# Altium integrated library Analog Devices Data Converters Digital-to-Analog Converters.IntLib: 2231 symbols (part 28 of 181)
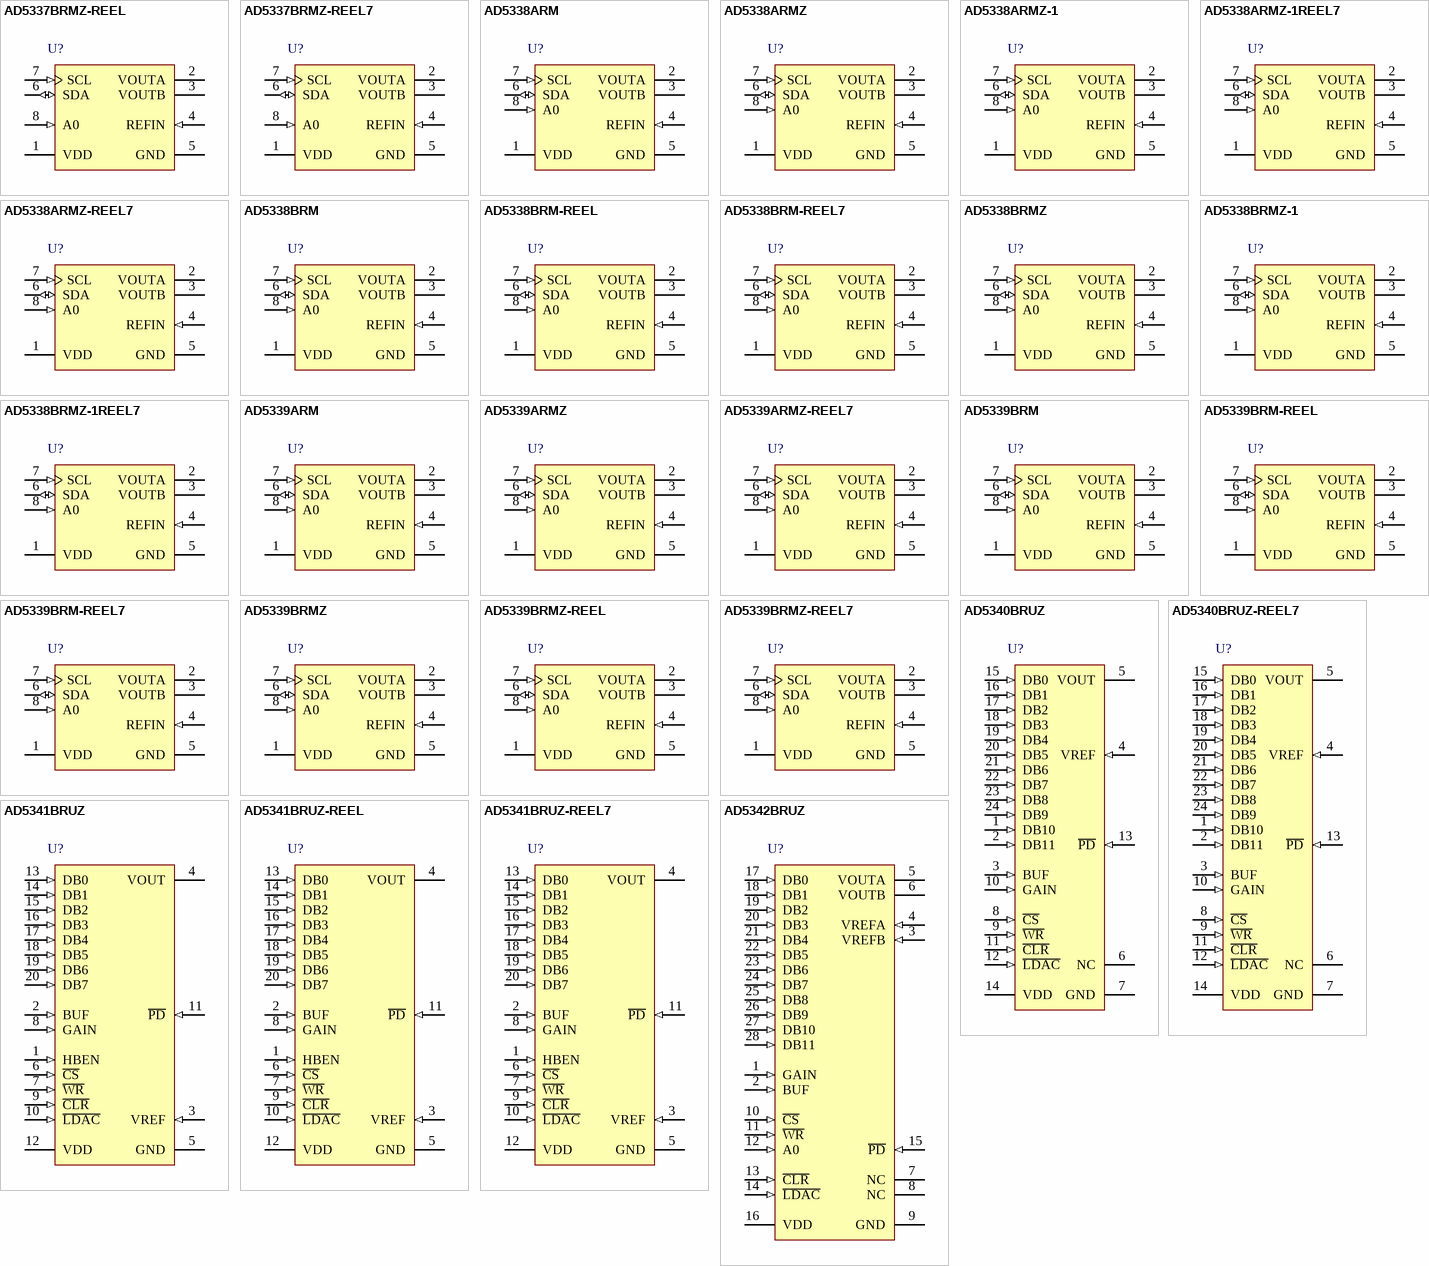
[diagram p141: symbols AD5337BRMZ-REEL to AD5342BRUZ]

## AD5338BRMZ-1
designator U?
Dual 10-Bit Voltage Output Digital-to-Analog Converter with 2-WireInterface, 2.5 to 5.5 V, 250 uA, -40 to +105 degC, RM-8, Pb-Free, Tube; Generic Part Number: AD5338; Manufacturer: Analog Devices; PartNumber: AD5338BRMZ-1; # DAC Outputs: 2; Max V+: 5.5V; Op Pwr Diss: 1.9mW; Resolution (Bits): 10; Settling Time: 7µs; Single Supply: Yes; DatasheetVersion: Rev.C; PackageVersion: Aug-2005; PackageReference: RM-8; PackageDescription: 8-Lead Mini Small Outline Package [MSOP]; Supplier 1: Digi-Key; Supplier Part Number 1: AD5338BRMZ-1-ND; Supplier 2: Mouser; Supplier Part Number 2: 584-AD5338BRMZ-1; Packing: Tube; RoHS: Y; Mounting Technology: Surface Mount; Code_JEDEC: MO-187-AA; ComponentLink1Description: Manufacturer URL; ComponentLink1URL: http://www.analog.com/en/index.html; ComponentLink2Description: Datasheet; ComponentLink2URL: http://www.analog.com/static/imported-files/data_sheets/AD5337_5338_5339.pdf; ComponentLink3Description: Package Specification; ComponentLink3URL: http://www.analog.com/static/imported-files/packages/PKG_PDF/MSOP%28RM%29/RM_8.pdf; ComponentLink4Description: Product URL; ComponentLink4URL: http://www.analog.com/en/digital-to-analog-converters/da-converters/ad5338/products/product.html
footprint RM-8_N (TSOP, 8-Leads, Body 3x3mm, Pitch 0.65mm, IPC Medium Density)
footprint RM-8_L (TSOP, 8-Leads, Body 3x3mm, Pitch 0.65mm, IPC High Density)
footprint RM-8_M (TSOP, 8-Leads, Body 3x3mm, Pitch 0.65mm, IPC Low Density)
pins: 1 VDD (power) "Power Supply Input. These parts can be operated from 2.5 V to 5.5 V, and the supply should be decoupled to GND.", 2 VOUTA (hiz) "Buffered Analog Output Voltage from DAC A. The output amplifier has rail-to-rail operation.", 3 VOUTB (hiz) "Buffered Analog Output Voltage from DAC B. The output amplifier has rail-to-rail operation.", 4 REFIN (in) "Reference Input Pin for the Two DACs. It has an input range from 0.25 V to VDD.", 5 GND (power) "Ground Reference Point for All Circuitry on the Parts.", 6 SDA (io) "Serial Data Line. This is used in conjunction with the SCL line to clock data into or out of the 16-bit input shift register. SDA is a bidirectional open-drain data line that should be pulled to the supply with an external (See Datasheet)", 7 SCL (in) "Serial Clock Line. This is used in conjunction with the SDA line to clock data into or out of the 16-bit input shift register. Clock rates of up to 400 kbps can be accommodated in the 2-wire interface.", 8 A0 (in) "Address Input. Sets the least significant bit of the 7-bit slave address."

## AD5338BRMZ-1REEL7
designator U?
Dual 10-Bit Voltage Output Digital-to-Analog Converter with 2-WireInterface, 2.5 to 5.5 V, 250 uA, -40 to +105 degC, RM-8, Pb-Free, Reel; Generic Part Number: AD5338; Manufacturer: Analog Devices; PartNumber: AD5338BRMZ-1REEL7; # DAC Outputs: 2; Max V+: 5.5V; Op Pwr Diss: 1.9mW; Resolution (Bits): 10; Settling Time: 7µs; Single Supply: Yes; DatasheetVersion: Rev.C; PackageVersion: Aug-2005; PackageReference: RM-8; PackageDescription: 8-Lead Mini Small Outline Package [MSOP]; Supplier 1: Digi-Key; Supplier Part Number 1: AD5338BRMZ-1REEL7-ND; Supplier 2: Mouser; Supplier Part Number 2: 584-AD5338BRMZ-1R7; Packing: Reel; RoHS: Y; Mounting Technology: Surface Mount; Code_JEDEC: MO-187-AA; ComponentLink1Description: Manufacturer URL; ComponentLink1URL: http://www.analog.com/en/index.html; ComponentLink2Description: Datasheet; ComponentLink2URL: http://www.analog.com/static/imported-files/data_sheets/AD5337_5338_5339.pdf; ComponentLink3Description: Package Specification; ComponentLink3URL: http://www.analog.com/static/imported-files/packages/PKG_PDF/MSOP%28RM%29/RM_8.pdf; ComponentLink4Description: Product URL; ComponentLink4URL: http://www.analog.com/en/digital-to-analog-converters/da-converters/ad5338/products/product.html
footprint RM-8_N (TSOP, 8-Leads, Body 3x3mm, Pitch 0.65mm, IPC Medium Density)
footprint RM-8_L (TSOP, 8-Leads, Body 3x3mm, Pitch 0.65mm, IPC High Density)
footprint RM-8_M (TSOP, 8-Leads, Body 3x3mm, Pitch 0.65mm, IPC Low Density)
pins: 1 VDD (power) "Power Supply Input. These parts can be operated from 2.5 V to 5.5 V, and the supply should be decoupled to GND.", 2 VOUTA (hiz) "Buffered Analog Output Voltage from DAC A. The output amplifier has rail-to-rail operation.", 3 VOUTB (hiz) "Buffered Analog Output Voltage from DAC B. The output amplifier has rail-to-rail operation.", 4 REFIN (in) "Reference Input Pin for the Two DACs. It has an input range from 0.25 V to VDD.", 5 GND (power) "Ground Reference Point for All Circuitry on the Parts.", 6 SDA (io) "Serial Data Line. This is used in conjunction with the SCL line to clock data into or out of the 16-bit input shift register. SDA is a bidirectional open-drain data line that should be pulled to the supply with an external (See Datasheet)", 7 SCL (in) "Serial Clock Line. This is used in conjunction with the SDA line to clock data into or out of the 16-bit input shift register. Clock rates of up to 400 kbps can be accommodated in the 2-wire interface.", 8 A0 (in) "Address Input. Sets the least significant bit of the 7-bit slave address."

## AD5339ARM
designator U?
Dual 12-Bit Voltage Output Digital-to-Analog Converter with 2-WireInterface, 2.5 to 5.5 V, 250 uA, -40 to +105 degC, RM-8, Tube; Generic Part Number: AD5339; Manufacturer: Analog Devices; PartNumber: AD5339ARM; # DAC Outputs: 2; Max V+: 5.5V; Op Pwr Diss: 1.9mW; Resolution (Bits): 12; Settling Time: 8µs; Single Supply: Yes; DatasheetVersion: Rev.C; PackageVersion: Aug-2005; PackageReference: RM-8; PackageDescription: 8-Lead Mini Small Outline Package [MSOP]; Supplier 1: Digi-Key; Supplier Part Number 1: AD5339ARM-ND; Supplier 2: Farnell; Supplier Part Number 2: 8396833; Supplier 3: Newark; Supplier Part Number 3: 31M4087; Supplier 4: Newark; Supplier Part Number 4: 87H9918; Supplier 5: Mouser; Supplier Part Number 5: 584-AD5339ARM; Packing: Tube; RoHS: N; Mounting Technology: Surface Mount; Code_JEDEC: MO-187-AA; ComponentLink1Description: Manufacturer URL; ComponentLink1URL: http://www.analog.com/en/index.html; ComponentLink2Description: Datasheet; ComponentLink2URL: http://www.analog.com/static/imported-files/data_sheets/AD5337_5338_5339.pdf; ComponentLink3Description: Package Specification; ComponentLink3URL: http://www.analog.com/static/imported-files/packages/PKG_PDF/MSOP%28RM%29/RM_8.pdf; ComponentLink4Description: Product URL; ComponentLink4URL: http://www.analog.com/en/digital-to-analog-converters/da-converters/ad5339/products/product.html
footprint RM-8_N (TSOP, 8-Leads, Body 3x3mm, Pitch 0.65mm, IPC Medium Density)
footprint RM-8_L (TSOP, 8-Leads, Body 3x3mm, Pitch 0.65mm, IPC High Density)
footprint RM-8_M (TSOP, 8-Leads, Body 3x3mm, Pitch 0.65mm, IPC Low Density)
pins: 1 VDD (power) "Power Supply Input. These parts can be operated from 2.5 V to 5.5 V, and the supply should be decoupled to GND.", 2 VOUTA (hiz) "Buffered Analog Output Voltage from DAC A. The output amplifier has rail-to-rail operation.", 3 VOUTB (hiz) "Buffered Analog Output Voltage from DAC B. The output amplifier has rail-to-rail operation.", 4 REFIN (in) "Reference Input Pin for the Two DACs. It has an input range from 0.25 V to VDD.", 5 GND (power) "Ground Reference Point for All Circuitry on the Parts.", 6 SDA (io) "Serial Data Line. This is used in conjunction with the SCL line to clock data into or out of the 16-bit input shift register. SDA is a bidirectional open-drain data line that should be pulled to the supply with an external (See Datasheet)", 7 SCL (in) "Serial Clock Line. This is used in conjunction with the SDA line to clock data into or out of the 16-bit input shift register. Clock rates of up to 400 kbps can be accommodated in the 2-wire interface.", 8 A0 (in) "Address Input. Sets the least significant bit of the 7-bit slave address."

## AD5339ARMZ
designator U?
Dual 12-Bit Voltage Output Digital-to-Analog Converter with 2-WireInterface, 2.5 to 5.5 V, 250 uA, -40 to +105 degC, RM-8, Pb-Free, Tube; Generic Part Number: AD5339; Manufacturer: Analog Devices; PartNumber: AD5339ARMZ; # DAC Outputs: 2; Max V+: 5.5V; Op Pwr Diss: 1.9mW; Resolution (Bits): 12; Settling Time: 8µs; Single Supply: Yes; DatasheetVersion: Rev.C; PackageVersion: Aug-2005; PackageReference: RM-8; PackageDescription: 8-Lead Mini Small Outline Package [MSOP]; Supplier 1: Digi-Key; Supplier Part Number 1: AD5339ARMZ-ND; Supplier 2: Farnell; Supplier Part Number 2: 2312737; Supplier 3: Newark; Supplier Part Number 3: 23T4180; Supplier 4: Mouser; Supplier Part Number 4: 584-AD5339ARMZ; Packing: Tube; RoHS: Y; Mounting Technology: Surface Mount; Code_JEDEC: MO-187-AA; ComponentLink1Description: Manufacturer URL; ComponentLink1URL: http://www.analog.com/en/index.html; ComponentLink2Description: Datasheet; ComponentLink2URL: http://www.analog.com/static/imported-files/data_sheets/AD5337_5338_5339.pdf; ComponentLink3Description: Package Specification; ComponentLink3URL: http://www.analog.com/static/imported-files/packages/PKG_PDF/MSOP%28RM%29/RM_8.pdf; ComponentLink4Description: Product URL; ComponentLink4URL: http://www.analog.com/en/digital-to-analog-converters/da-converters/ad5339/products/product.html
footprint RM-8_N (TSOP, 8-Leads, Body 3x3mm, Pitch 0.65mm, IPC Medium Density)
footprint RM-8_L (TSOP, 8-Leads, Body 3x3mm, Pitch 0.65mm, IPC High Density)
footprint RM-8_M (TSOP, 8-Leads, Body 3x3mm, Pitch 0.65mm, IPC Low Density)
pins: 1 VDD (power) "Power Supply Input. These parts can be operated from 2.5 V to 5.5 V, and the supply should be decoupled to GND.", 2 VOUTA (hiz) "Buffered Analog Output Voltage from DAC A. The output amplifier has rail-to-rail operation.", 3 VOUTB (hiz) "Buffered Analog Output Voltage from DAC B. The output amplifier has rail-to-rail operation.", 4 REFIN (in) "Reference Input Pin for the Two DACs. It has an input range from 0.25 V to VDD.", 5 GND (power) "Ground Reference Point for All Circuitry on the Parts.", 6 SDA (io) "Serial Data Line. This is used in conjunction with the SCL line to clock data into or out of the 16-bit input shift register. SDA is a bidirectional open-drain data line that should be pulled to the supply with an external (See Datasheet)", 7 SCL (in) "Serial Clock Line. This is used in conjunction with the SDA line to clock data into or out of the 16-bit input shift register. Clock rates of up to 400 kbps can be accommodated in the 2-wire interface.", 8 A0 (in) "Address Input. Sets the least significant bit of the 7-bit slave address."

## AD5339ARMZ-REEL7
designator U?
Dual 12-Bit Voltage Output Digital-to-Analog Converter with 2-WireInterface, 2.5 to 5.5 V, 250 uA, -40 to +105 degC, RM-8, Pb-Free, Reel; Generic Part Number: AD5339; Manufacturer: Analog Devices; PartNumber: AD5339ARMZ-REEL7; # DAC Outputs: 2; Max V+: 5.5V; Op Pwr Diss: 1.9mW; Resolution (Bits): 12; Settling Time: 8µs; Single Supply: Yes; DatasheetVersion: Rev.C; PackageVersion: Aug-2005; PackageReference: RM-8; PackageDescription: 8-Lead Mini Small Outline Package [MSOP]; Supplier 1: Digi-Key; Supplier Part Number 1: AD5339ARMZ-REEL7-ND; Supplier 2: Newark; Supplier Part Number 2: 27T3834; Supplier 3: Mouser; Supplier Part Number 3: 584-AD5339ARMZ-R7; Packing: Reel; RoHS: Y; Mounting Technology: Surface Mount; Code_JEDEC: MO-187-AA; ComponentLink1Description: Manufacturer URL; ComponentLink1URL: http://www.analog.com/en/index.html; ComponentLink2Description: Datasheet; ComponentLink2URL: http://www.analog.com/static/imported-files/data_sheets/AD5337_5338_5339.pdf; ComponentLink3Description: Package Specification; ComponentLink3URL: http://www.analog.com/static/imported-files/packages/PKG_PDF/MSOP%28RM%29/RM_8.pdf; ComponentLink4Description: Product URL; ComponentLink4URL: http://www.analog.com/en/digital-to-analog-converters/da-converters/ad5339/products/product.html
footprint RM-8_N (TSOP, 8-Leads, Body 3x3mm, Pitch 0.65mm, IPC Medium Density)
footprint RM-8_L (TSOP, 8-Leads, Body 3x3mm, Pitch 0.65mm, IPC High Density)
footprint RM-8_M (TSOP, 8-Leads, Body 3x3mm, Pitch 0.65mm, IPC Low Density)
pins: 1 VDD (power) "Power Supply Input. These parts can be operated from 2.5 V to 5.5 V, and the supply should be decoupled to GND.", 2 VOUTA (hiz) "Buffered Analog Output Voltage from DAC A. The output amplifier has rail-to-rail operation.", 3 VOUTB (hiz) "Buffered Analog Output Voltage from DAC B. The output amplifier has rail-to-rail operation.", 4 REFIN (in) "Reference Input Pin for the Two DACs. It has an input range from 0.25 V to VDD.", 5 GND (power) "Ground Reference Point for All Circuitry on the Parts.", 6 SDA (io) "Serial Data Line. This is used in conjunction with the SCL line to clock data into or out of the 16-bit input shift register. SDA is a bidirectional open-drain data line that should be pulled to the supply with an external (See Datasheet)", 7 SCL (in) "Serial Clock Line. This is used in conjunction with the SDA line to clock data into or out of the 16-bit input shift register. Clock rates of up to 400 kbps can be accommodated in the 2-wire interface.", 8 A0 (in) "Address Input. Sets the least significant bit of the 7-bit slave address."

## AD5339BRM
designator U?
Dual 12-Bit Voltage Output Digital-to-Analog Converter with 2-WireInterface, 2.5 to 5.5 V, 250 uA, -40 to +105 degC, RM-8, Tube; Generic Part Number: AD5339; Manufacturer: Analog Devices; PartNumber: AD5339BRM; # DAC Outputs: 2; Max V+: 5.5V; Op Pwr Diss: 1.9mW; Resolution (Bits): 12; Settling Time: 8µs; Single Supply: Yes; DatasheetVersion: Rev.C; PackageVersion: Aug-2005; PackageReference: RM-8; PackageDescription: 8-Lead Mini Small Outline Package [MSOP]; Supplier 1: Digi-Key; Supplier Part Number 1: AD5339BRM-ND; Supplier 2: Mouser; Supplier Part Number 2: 584-AD5339BRM; Packing: Tube; RoHS: N; Mounting Technology: Surface Mount; Code_JEDEC: MO-187-AA; ComponentLink1Description: Manufacturer URL; ComponentLink1URL: http://www.analog.com/en/index.html; ComponentLink2Description: Datasheet; ComponentLink2URL: http://www.analog.com/static/imported-files/data_sheets/AD5337_5338_5339.pdf; ComponentLink3Description: Package Specification; ComponentLink3URL: http://www.analog.com/static/imported-files/packages/PKG_PDF/MSOP%28RM%29/RM_8.pdf; ComponentLink4Description: Product URL; ComponentLink4URL: http://www.analog.com/en/digital-to-analog-converters/da-converters/ad5339/products/product.html
footprint RM-8_N (TSOP, 8-Leads, Body 3x3mm, Pitch 0.65mm, IPC Medium Density)
footprint RM-8_L (TSOP, 8-Leads, Body 3x3mm, Pitch 0.65mm, IPC High Density)
footprint RM-8_M (TSOP, 8-Leads, Body 3x3mm, Pitch 0.65mm, IPC Low Density)
pins: 1 VDD (power) "Power Supply Input. These parts can be operated from 2.5 V to 5.5 V, and the supply should be decoupled to GND.", 2 VOUTA (hiz) "Buffered Analog Output Voltage from DAC A. The output amplifier has rail-to-rail operation.", 3 VOUTB (hiz) "Buffered Analog Output Voltage from DAC B. The output amplifier has rail-to-rail operation.", 4 REFIN (in) "Reference Input Pin for the Two DACs. It has an input range from 0.25 V to VDD.", 5 GND (power) "Ground Reference Point for All Circuitry on the Parts.", 6 SDA (io) "Serial Data Line. This is used in conjunction with the SCL line to clock data into or out of the 16-bit input shift register. SDA is a bidirectional open-drain data line that should be pulled to the supply with an external (See Datasheet)", 7 SCL (in) "Serial Clock Line. This is used in conjunction with the SDA line to clock data into or out of the 16-bit input shift register. Clock rates of up to 400 kbps can be accommodated in the 2-wire interface.", 8 A0 (in) "Address Input. Sets the least significant bit of the 7-bit slave address."

## AD5339BRM-REEL
designator U?
Dual 12-Bit Voltage Output Digital-to-Analog Converter with 2-WireInterface, 2.5 to 5.5 V, 250 uA, -40 to +105 degC, RM-8, Reel; Generic Part Number: AD5339; Manufacturer: Analog Devices; PartNumber: AD5339BRM-REEL; # DAC Outputs: 2; Max V+: 5.5V; Op Pwr Diss: 1.9mW; Resolution (Bits): 12; Settling Time: 8µs; Single Supply: Yes; DatasheetVersion: Rev.C; PackageVersion: Aug-2005; PackageReference: RM-8; PackageDescription: 8-Lead Mini Small Outline Package [MSOP]; Supplier 1: Digi-Key; Supplier Part Number 1: AD5339BRM-REEL-ND; Supplier 2: Mouser; Supplier Part Number 2: 584-AD5339BRM-R; Packing: Reel; RoHS: N; Mounting Technology: Surface Mount; Code_JEDEC: MO-187-AA; ComponentLink1Description: Manufacturer URL; ComponentLink1URL: http://www.analog.com/en/index.html; ComponentLink2Description: Datasheet; ComponentLink2URL: http://www.analog.com/static/imported-files/data_sheets/AD5337_5338_5339.pdf; ComponentLink3Description: Package Specification; ComponentLink3URL: http://www.analog.com/static/imported-files/packages/PKG_PDF/MSOP%28RM%29/RM_8.pdf; ComponentLink4Description: Product URL; ComponentLink4URL: http://www.analog.com/en/digital-to-analog-converters/da-converters/ad5339/products/product.html
footprint RM-8_N (TSOP, 8-Leads, Body 3x3mm, Pitch 0.65mm, IPC Medium Density)
footprint RM-8_L (TSOP, 8-Leads, Body 3x3mm, Pitch 0.65mm, IPC High Density)
footprint RM-8_M (TSOP, 8-Leads, Body 3x3mm, Pitch 0.65mm, IPC Low Density)
pins: 1 VDD (power) "Power Supply Input. These parts can be operated from 2.5 V to 5.5 V, and the supply should be decoupled to GND.", 2 VOUTA (hiz) "Buffered Analog Output Voltage from DAC A. The output amplifier has rail-to-rail operation.", 3 VOUTB (hiz) "Buffered Analog Output Voltage from DAC B. The output amplifier has rail-to-rail operation.", 4 REFIN (in) "Reference Input Pin for the Two DACs. It has an input range from 0.25 V to VDD.", 5 GND (power) "Ground Reference Point for All Circuitry on the Parts.", 6 SDA (io) "Serial Data Line. This is used in conjunction with the SCL line to clock data into or out of the 16-bit input shift register. SDA is a bidirectional open-drain data line that should be pulled to the supply with an external (See Datasheet)", 7 SCL (in) "Serial Clock Line. This is used in conjunction with the SDA line to clock data into or out of the 16-bit input shift register. Clock rates of up to 400 kbps can be accommodated in the 2-wire interface.", 8 A0 (in) "Address Input. Sets the least significant bit of the 7-bit slave address."

## AD5339BRM-REEL7
designator U?
Dual 12-Bit Voltage Output Digital-to-Analog Converter with 2-WireInterface, 2.5 to 5.5 V, 250 uA, -40 to +105 degC, RM-8, Reel; Generic Part Number: AD5339; Manufacturer: Analog Devices; PartNumber: AD5339BRM-REEL7; # DAC Outputs: 2; Max V+: 5.5V; Op Pwr Diss: 1.9mW; Resolution (Bits): 12; Settling Time: 8µs; Single Supply: Yes; DatasheetVersion: Rev.C; PackageVersion: Aug-2005; PackageReference: RM-8; PackageDescription: 8-Lead Mini Small Outline Package [MSOP]; Supplier 1: Mouser; Supplier Part Number 1: N/A; Packing: Reel; RoHS: N; Mounting Technology: Surface Mount; Code_JEDEC: MO-187-AA; ComponentLink1Description: Manufacturer URL; ComponentLink1URL: http://www.analog.com/en/index.html; ComponentLink2Description: Datasheet; ComponentLink2URL: http://www.analog.com/static/imported-files/data_sheets/AD5337_5338_5339.pdf; ComponentLink3Description: Package Specification; ComponentLink3URL: http://www.analog.com/static/imported-files/packages/PKG_PDF/MSOP%28RM%29/RM_8.pdf; ComponentLink4Description: Product URL; ComponentLink4URL: http://www.analog.com/en/digital-to-analog-converters/da-converters/ad5339/products/product.html
footprint RM-8_N (TSOP, 8-Leads, Body 3x3mm, Pitch 0.65mm, IPC Medium Density)
footprint RM-8_L (TSOP, 8-Leads, Body 3x3mm, Pitch 0.65mm, IPC High Density)
footprint RM-8_M (TSOP, 8-Leads, Body 3x3mm, Pitch 0.65mm, IPC Low Density)
pins: 1 VDD (power) "Power Supply Input. These parts can be operated from 2.5 V to 5.5 V, and the supply should be decoupled to GND.", 2 VOUTA (hiz) "Buffered Analog Output Voltage from DAC A. The output amplifier has rail-to-rail operation.", 3 VOUTB (hiz) "Buffered Analog Output Voltage from DAC B. The output amplifier has rail-to-rail operation.", 4 REFIN (in) "Reference Input Pin for the Two DACs. It has an input range from 0.25 V to VDD.", 5 GND (power) "Ground Reference Point for All Circuitry on the Parts.", 6 SDA (io) "Serial Data Line. This is used in conjunction with the SCL line to clock data into or out of the 16-bit input shift register. SDA is a bidirectional open-drain data line that should be pulled to the supply with an external (See Datasheet)", 7 SCL (in) "Serial Clock Line. This is used in conjunction with the SDA line to clock data into or out of the 16-bit input shift register. Clock rates of up to 400 kbps can be accommodated in the 2-wire interface.", 8 A0 (in) "Address Input. Sets the least significant bit of the 7-bit slave address."

## AD5339BRMZ
designator U?
Dual 12-Bit Voltage Output Digital-to-Analog Converter with 2-WireInterface, 2.5 to 5.5 V, 250 uA, -40 to +105 degC, RM-8, Pb-Free, Tube; Generic Part Number: AD5339; Manufacturer: Analog Devices; PartNumber: AD5339BRMZ; # DAC Outputs: 2; Max V+: 5.5V; Op Pwr Diss: 1.9mW; Resolution (Bits): 12; Settling Time: 8µs; Single Supply: Yes; DatasheetVersion: Rev.C; PackageVersion: Aug-2005; PackageReference: RM-8; PackageDescription: 8-Lead Mini Small Outline Package [MSOP]; Supplier 1: Digi-Key; Supplier Part Number 1: AD5339BRMZ-ND; Supplier 2: Newark; Supplier Part Number 2: 27T3835; Supplier 3: Mouser; Supplier Part Number 3: 584-AD5339BRMZ; Packing: Tube; RoHS: Y; Mounting Technology: Surface Mount; Code_JEDEC: MO-187-AA; ComponentLink1Description: Manufacturer URL; ComponentLink1URL: http://www.analog.com/en/index.html; ComponentLink2Description: Datasheet; ComponentLink2URL: http://www.analog.com/static/imported-files/data_sheets/AD5337_5338_5339.pdf; ComponentLink3Description: Package Specification; ComponentLink3URL: http://www.analog.com/static/imported-files/packages/PKG_PDF/MSOP%28RM%29/RM_8.pdf; ComponentLink4Description: Product URL; ComponentLink4URL: http://www.analog.com/en/digital-to-analog-converters/da-converters/ad5339/products/product.html
footprint RM-8_N (TSOP, 8-Leads, Body 3x3mm, Pitch 0.65mm, IPC Medium Density)
footprint RM-8_L (TSOP, 8-Leads, Body 3x3mm, Pitch 0.65mm, IPC High Density)
footprint RM-8_M (TSOP, 8-Leads, Body 3x3mm, Pitch 0.65mm, IPC Low Density)
pins: 1 VDD (power) "Power Supply Input. These parts can be operated from 2.5 V to 5.5 V, and the supply should be decoupled to GND.", 2 VOUTA (hiz) "Buffered Analog Output Voltage from DAC A. The output amplifier has rail-to-rail operation.", 3 VOUTB (hiz) "Buffered Analog Output Voltage from DAC B. The output amplifier has rail-to-rail operation.", 4 REFIN (in) "Reference Input Pin for the Two DACs. It has an input range from 0.25 V to VDD.", 5 GND (power) "Ground Reference Point for All Circuitry on the Parts.", 6 SDA (io) "Serial Data Line. This is used in conjunction with the SCL line to clock data into or out of the 16-bit input shift register. SDA is a bidirectional open-drain data line that should be pulled to the supply with an external (See Datasheet)", 7 SCL (in) "Serial Clock Line. This is used in conjunction with the SDA line to clock data into or out of the 16-bit input shift register. Clock rates of up to 400 kbps can be accommodated in the 2-wire interface.", 8 A0 (in) "Address Input. Sets the least significant bit of the 7-bit slave address."

## AD5339BRMZ-REEL
designator U?
Dual 12-Bit Voltage Output Digital-to-Analog Converter with 2-WireInterface, 2.5 to 5.5 V, 250 uA, -40 to +105 degC, RM-8, Pb-Free, Reel; Generic Part Number: AD5339; Manufacturer: Analog Devices; PartNumber: AD5339BRMZ-REEL; # DAC Outputs: 2; Max V+: 5.5V; Op Pwr Diss: 1.9mW; Resolution (Bits): 12; Settling Time: 8µs; Single Supply: Yes; DatasheetVersion: Rev.C; PackageVersion: Aug-2005; PackageReference: RM-8; PackageDescription: 8-Lead Mini Small Outline Package [MSOP]; Supplier 1: Digi-Key; Supplier Part Number 1: AD5339BRMZ-REEL-ND; Supplier 2: Mouser; Supplier Part Number 2: 584-AD5339BRMZ-R; Packing: Reel; RoHS: Y; Mounting Technology: Surface Mount; Code_JEDEC: MO-187-AA; ComponentLink1Description: Manufacturer URL; ComponentLink1URL: http://www.analog.com/en/index.html; ComponentLink2Description: Datasheet; ComponentLink2URL: http://www.analog.com/static/imported-files/data_sheets/AD5337_5338_5339.pdf; ComponentLink3Description: Package Specification; ComponentLink3URL: http://www.analog.com/static/imported-files/packages/PKG_PDF/MSOP%28RM%29/RM_8.pdf; ComponentLink4Description: Product URL; ComponentLink4URL: http://www.analog.com/en/digital-to-analog-converters/da-converters/ad5339/products/product.html
footprint RM-8_N (TSOP, 8-Leads, Body 3x3mm, Pitch 0.65mm, IPC Medium Density)
footprint RM-8_L (TSOP, 8-Leads, Body 3x3mm, Pitch 0.65mm, IPC High Density)
footprint RM-8_M (TSOP, 8-Leads, Body 3x3mm, Pitch 0.65mm, IPC Low Density)
pins: 1 VDD (power) "Power Supply Input. These parts can be operated from 2.5 V to 5.5 V, and the supply should be decoupled to GND.", 2 VOUTA (hiz) "Buffered Analog Output Voltage from DAC A. The output amplifier has rail-to-rail operation.", 3 VOUTB (hiz) "Buffered Analog Output Voltage from DAC B. The output amplifier has rail-to-rail operation.", 4 REFIN (in) "Reference Input Pin for the Two DACs. It has an input range from 0.25 V to VDD.", 5 GND (power) "Ground Reference Point for All Circuitry on the Parts.", 6 SDA (io) "Serial Data Line. This is used in conjunction with the SCL line to clock data into or out of the 16-bit input shift register. SDA is a bidirectional open-drain data line that should be pulled to the supply with an external (See Datasheet)", 7 SCL (in) "Serial Clock Line. This is used in conjunction with the SDA line to clock data into or out of the 16-bit input shift register. Clock rates of up to 400 kbps can be accommodated in the 2-wire interface.", 8 A0 (in) "Address Input. Sets the least significant bit of the 7-bit slave address."

## AD5339BRMZ-REEL7
designator U?
Dual 12-Bit Voltage Output Digital-to-Analog Converter with 2-WireInterface, 2.5 to 5.5 V, 250 uA, -40 to +105 degC, RM-8, Pb-Free, Reel; Generic Part Number: AD5339; Manufacturer: Analog Devices; PartNumber: AD5339BRMZ-REEL7; # DAC Outputs: 2; Max V+: 5.5V; Op Pwr Diss: 1.9mW; Resolution (Bits): 12; Settling Time: 8µs; Single Supply: Yes; DatasheetVersion: Rev.C; PackageVersion: Aug-2005; PackageReference: RM-8; PackageDescription: 8-Lead Mini Small Outline Package [MSOP]; Supplier 1: Digi-Key; Supplier Part Number 1: AD5339BRMZ-REEL7-ND; Supplier 2: Mouser; Supplier Part Number 2: 584-AD5339BRMZ-R7; Packing: Reel; RoHS: Y; Mounting Technology: Surface Mount; Code_JEDEC: MO-187-AA; ComponentLink1Description: Manufacturer URL; ComponentLink1URL: http://www.analog.com/en/index.html; ComponentLink2Description: Datasheet; ComponentLink2URL: http://www.analog.com/static/imported-files/data_sheets/AD5337_5338_5339.pdf; ComponentLink3Description: Package Specification; ComponentLink3URL: http://www.analog.com/static/imported-files/packages/PKG_PDF/MSOP%28RM%29/RM_8.pdf; ComponentLink4Description: Product URL; ComponentLink4URL: http://www.analog.com/en/digital-to-analog-converters/da-converters/ad5339/products/product.html
footprint RM-8_N (TSOP, 8-Leads, Body 3x3mm, Pitch 0.65mm, IPC Medium Density)
footprint RM-8_L (TSOP, 8-Leads, Body 3x3mm, Pitch 0.65mm, IPC High Density)
footprint RM-8_M (TSOP, 8-Leads, Body 3x3mm, Pitch 0.65mm, IPC Low Density)
pins: 1 VDD (power) "Power Supply Input. These parts can be operated from 2.5 V to 5.5 V, and the supply should be decoupled to GND.", 2 VOUTA (hiz) "Buffered Analog Output Voltage from DAC A. The output amplifier has rail-to-rail operation.", 3 VOUTB (hiz) "Buffered Analog Output Voltage from DAC B. The output amplifier has rail-to-rail operation.", 4 REFIN (in) "Reference Input Pin for the Two DACs. It has an input range from 0.25 V to VDD.", 5 GND (power) "Ground Reference Point for All Circuitry on the Parts.", 6 SDA (io) "Serial Data Line. This is used in conjunction with the SCL line to clock data into or out of the 16-bit input shift register. SDA is a bidirectional open-drain data line that should be pulled to the supply with an external (See Datasheet)", 7 SCL (in) "Serial Clock Line. This is used in conjunction with the SDA line to clock data into or out of the 16-bit input shift register. Clock rates of up to 400 kbps can be accommodated in the 2-wire interface.", 8 A0 (in) "Address Input. Sets the least significant bit of the 7-bit slave address."

## AD5340BRUZ
designator U?
Single 12-Bit Digital-to-Analog Converter, 2.5 to 5.5 V, -40 to +105 degC, RU-24, Pb-Free, Tube; Generic Part Number: AD5340; Manufacturer: Analog Devices; PartNumber: AD5340BRUZ; # DAC Outputs: 1; Max V+: 5.5V; Op Pwr Diss: 1.25mW; Resolution (Bits): 12; Settling Time: 8µs; Single Supply: Yes; DatasheetVersion: Rev.A; PackageVersion: 2002; PackageReference: RU-24; PackageDescription: 24-Lead Thin Shrink Small Outline Package [TSSOP]; Supplier 1: Digi-Key; Supplier Part Number 1: AD5340BRUZ-ND; Supplier 2: Farnell; Supplier Part Number 2: 9604197; Supplier 3: Newark; Supplier Part Number 3: 31M4092; Supplier 4: Mouser; Supplier Part Number 4: 584-AD5340BRUZ; Packing: Tube; RoHS: Y; Mounting Technology: Surface Mount; Code_JEDEC: MO-153-AD; ComponentLink1Description: Manufacturer URL; ComponentLink1URL: http://www.analog.com/en/index.html; ComponentLink2Description: Datasheet; ComponentLink2URL: http://www.analog.com/static/imported-files/data_sheets/AD5330_5331_5340_5341.pdf; ComponentLink3Description: Package Specification; ComponentLink3URL: http://www.analog.com/static/imported-files/packages/380523655245964505593671154107510036154RU24.pdf; ComponentLink4Description: Product URL; ComponentLink4URL: http://www.analog.com/en/digital-to-analog-converters/da-converters/ad5340/products/product.html
footprint RU-24_N (TSOP, 24-Leads, Body 7.8x4.4mm, Pitch 0.65mm, IPC Medium Density)
footprint RU-24_L (TSOP, 24-Leads, Body 7.8x4.4mm, Pitch 0.65mm, IPC High Density)
footprint RU-24_M (TSOP, 24-Leads, Body 7.8x4.4mm, Pitch 0.65mm, IPC Low Density)
pins: 1 DB10 (in) "Parallel Data Input.", 2 DB11 (in) "Most Significant Bit of Parallel Data Input.", 3 BUF (in) "Buffer Control Pin. This pin controls whether the reference input to the DAC is buffered or unbuffered.", 4 VREF (in) "Reference Input.", 5 VOUT (hiz) "Output of DAC. Buffered output with rail-to-rail operation.", 6 NC "No Connect.", 7 GND (power) "Ground reference point for all circuitry on the part.", 8 ~{CS} (in) "Active Low Chip Select Input. This is used in conjunction with W\R\ to write data to the parallel interface.", 9 ~{WR} (in) "Active Low Write Input. This is used in conjunction with C\S\ to write data to the parallel interface.", 10 GAIN (in) "Gain Control Pin. This controls whether the output range from the DAC is 0 V to VREF or 0 V to 2 x VREF.", 11 ~{CLR} (in) "Asynchronous active low control input that clears all input registers and DAC registers to zero.", 12 ~{LDAC} (in) "Active low control input that updates the DAC registers with the contents of the input registers.", 13 ~{PD} (in) "Power-Down Pin. This active low control pin puts the DAC into power-down mode.", 14 VDD (power) "Power Supply Input. These parts can operate from 2.5 V to 5.5 V and the supply should be decoupled with a 10 uF capacitor in parallel with a 0.1 uF capacitor to GND.", 15 DB0 (in) "Parallel Data Input.", 16 DB1 (in) "Parallel Data Input.", 17 DB2 (in) "Parallel Data Input.", 18 DB3 (in) "Parallel Data Input.", 19 DB4 (in) "Parallel Data Input.", 20 DB5 (in) "Parallel Data Input.", 21 DB6 (in) "Parallel Data Input.", 22 DB7 (in) "Parallel Data Input.", 23 DB8 (in) "Parallel Data Input.", 24 DB9 (in) "Parallel Data Input."

## AD5340BRUZ-REEL7
designator U?
Single 12-Bit Digital-to-Analog Converter, 2.5 to 5.5 V, -40 to +105 degC, RU-24, Pb-Free, Reel; Generic Part Number: AD5340; Manufacturer: Analog Devices; PartNumber: AD5340BRUZ-REEL7; # DAC Outputs: 1; Max V+: 5.5V; Op Pwr Diss: 1.25mW; Resolution (Bits): 12; Settling Time: 8µs; Single Supply: Yes; DatasheetVersion: Rev.A; PackageVersion: 2002; PackageReference: RU-24; PackageDescription: 24-Lead Thin Shrink Small Outline Package [TSSOP]; Supplier 1: Digi-Key; Supplier Part Number 1: AD5340BRUZ-REEL7-ND; Supplier 2: Mouser; Supplier Part Number 2: 584-AD5340BRUZ-R7; Packing: Reel; RoHS: Y; Mounting Technology: Surface Mount; Code_JEDEC: MO-153-AD; ComponentLink1Description: Manufacturer URL; ComponentLink1URL: http://www.analog.com/en/index.html; ComponentLink2Description: Datasheet; ComponentLink2URL: http://www.analog.com/static/imported-files/data_sheets/AD5330_5331_5340_5341.pdf; ComponentLink3Description: Package Specification; ComponentLink3URL: http://www.analog.com/static/imported-files/packages/380523655245964505593671154107510036154RU24.pdf; ComponentLink4Description: Product URL; ComponentLink4URL: http://www.analog.com/en/digital-to-analog-converters/da-converters/ad5340/products/product.html
footprint RU-24_N (TSOP, 24-Leads, Body 7.8x4.4mm, Pitch 0.65mm, IPC Medium Density)
footprint RU-24_L (TSOP, 24-Leads, Body 7.8x4.4mm, Pitch 0.65mm, IPC High Density)
footprint RU-24_M (TSOP, 24-Leads, Body 7.8x4.4mm, Pitch 0.65mm, IPC Low Density)
pins: 1 DB10 (in) "Parallel Data Input.", 2 DB11 (in) "Most Significant Bit of Parallel Data Input.", 3 BUF (in) "Buffer Control Pin. This pin controls whether the reference input to the DAC is buffered or unbuffered.", 4 VREF (in) "Reference Input.", 5 VOUT (hiz) "Output of DAC. Buffered output with rail-to-rail operation.", 6 NC "No Connect.", 7 GND (power) "Ground reference point for all circuitry on the part.", 8 ~{CS} (in) "Active Low Chip Select Input. This is used in conjunction with W\R\ to write data to the parallel interface.", 9 ~{WR} (in) "Active Low Write Input. This is used in conjunction with C\S\ to write data to the parallel interface.", 10 GAIN (in) "Gain Control Pin. This controls whether the output range from the DAC is 0 V to VREF or 0 V to 2 x VREF.", 11 ~{CLR} (in) "Asynchronous active low control input that clears all input registers and DAC registers to zero.", 12 ~{LDAC} (in) "Active low control input that updates the DAC registers with the contents of the input registers.", 13 ~{PD} (in) "Power-Down Pin. This active low control pin puts the DAC into power-down mode.", 14 VDD (power) "Power Supply Input. These parts can operate from 2.5 V to 5.5 V and the supply should be decoupled with a 10 uF capacitor in parallel with a 0.1 uF capacitor to GND.", 15 DB0 (in) "Parallel Data Input.", 16 DB1 (in) "Parallel Data Input.", 17 DB2 (in) "Parallel Data Input.", 18 DB3 (in) "Parallel Data Input.", 19 DB4 (in) "Parallel Data Input.", 20 DB5 (in) "Parallel Data Input.", 21 DB6 (in) "Parallel Data Input.", 22 DB7 (in) "Parallel Data Input.", 23 DB8 (in) "Parallel Data Input.", 24 DB9 (in) "Parallel Data Input."

## AD5341BRUZ
designator U?
Single 12-Bit Digital-to-Analog Converter, 2.5 to 5.5 V, -40 to +105 degC, RU-20, Pb-Free, Tube; Generic Part Number: AD5341; Manufacturer: Analog Devices; PartNumber: AD5341BRUZ; # DAC Outputs: 1; Max V+: 5.5V; Op Pwr Diss: 1.25mW; Resolution (Bits): 12; Settling Time: 8µs; Single Supply: Yes; DatasheetVersion: Rev.A; PackageVersion: 2000; PackageReference: RU-20; PackageDescription: 20-Lead Thin Shrink Small Outline Package [TSSOP]; Supplier 1: Digi-Key; Supplier Part Number 1: AD5341BRUZ-ND; Supplier 2: Farnell; Supplier Part Number 2: 1581897; Supplier 3: Newark; Supplier Part Number 3: 15P0664; Supplier 4: Newark; Supplier Part Number 4: 59K3989; Supplier 5: Mouser; Supplier Part Number 5: 584-AD5341BRUZ; Packing: Tube; RoHS: Y; Mounting Technology: Surface Mount; Code_JEDEC: MO-153AC; ComponentLink1Description: Manufacturer URL; ComponentLink1URL: http://www.analog.com/en/index.html; ComponentLink2Description: Datasheet; ComponentLink2URL: http://www.analog.com/static/imported-files/data_sheets/AD5330_5331_5340_5341.pdf; ComponentLink3Description: Package Specification; ComponentLink3URL: http://www.analog.com/static/imported-files/packages/364515793657813558433715854054607941441RU20.pdf; ComponentLink4Description: Product URL; ComponentLink4URL: http://www.analog.com/en/digital-to-analog-converters/da-converters/ad5341/products/product.html
footprint RU-20_N (TSOP, 20-Leads, Body 6.5x4.4mm, Pitch 0.65mm, IPC Medium Density)
footprint RU-20_L (TSOP, 20-Leads, Body 6.5x4.4mm, Pitch 0.65mm, IPC High Density)
footprint RU-20_M (TSOP, 20-Leads, Body 6.5x4.4mm, Pitch 0.65mm, IPC Low Density)
pins: 1 HBEN (in) "High Byte Enable Pin. This pin is used when writing to the device to determine if data is written to the high byte register or the low byte register.", 2 BUF (in) "Buffer Control Pin. This pin controls whether the reference input to the DAC is buffered or unbuffered.", 3 VREF (in) "Reference Input.", 4 VOUT (hiz) "Output of DAC. Buffered output with rail-to-rail operation.", 5 GND (power) "Ground reference point for all circuitry on the part.", 6 ~{CS} (in) "Active low Chip Select Input. This is used in conjunction with W\R\ to write data to the parallel interface.", 7 ~{WR} (in) "Active Low Write Input. This is used in conjunction with C\S\ to write data to the parallel interface.", 8 GAIN (in) "Gain Control Pin. This controls whether the output range from the DAC is 0 V to VREF or 0 V to 2 x VREF.", 9 ~{CLR} (in) "Asynchronous active low control input that clears all input registers and DAC registers to zero.", 10 ~{LDAC} (in) "Active low control input that updates the DAC registers with the contents of the input registers.", 11 ~{PD} (in) "Power-Down Pin. This active low control pin puts the DAC into power-down mode.", 12 VDD (power) "Power Supply Input. These parts can operate from 2.5 V to 5.5 V and the supply should be decoupled with a 10 uF capacitor in parallel with a 0.1 uF capacitor to GND.", 13 DB0 (in) "Parallel Data Input.", 14 DB1 (in) "Parallel Data Input.", 15 DB2 (in) "Parallel Data Input.", 16 DB3 (in) "Parallel Data Input.", 17 DB4 (in) "Parallel Data Input.", 18 DB5 (in) "Parallel Data Input.", 19 DB6 (in) "Parallel Data Input.", 20 DB7 (in) "Parallel Data Input. DB7 is the MSB of these eight bits."

## AD5341BRUZ-REEL
designator U?
Single 12-Bit Digital-to-Analog Converter, 2.5 to 5.5 V, -40 to +105 degC, RU-20, Pb-Free, Reel; Generic Part Number: AD5341; Manufacturer: Analog Devices; PartNumber: AD5341BRUZ-REEL; # DAC Outputs: 1; Max V+: 5.5V; Op Pwr Diss: 1.25mW; Resolution (Bits): 12; Settling Time: 8µs; Single Supply: Yes; DatasheetVersion: Rev.A; PackageVersion: 2000; PackageReference: RU-20; PackageDescription: 20-Lead Thin Shrink Small Outline Package [TSSOP]; Supplier 1: Digi-Key; Supplier Part Number 1: AD5341BRUZ-REEL-ND; Supplier 2: Mouser; Supplier Part Number 2: 584-AD5341BRUZ-R; Packing: Reel; RoHS: Y; Mounting Technology: Surface Mount; Code_JEDEC: MO-153AC; ComponentLink1Description: Manufacturer URL; ComponentLink1URL: http://www.analog.com/en/index.html; ComponentLink2Description: Datasheet; ComponentLink2URL: http://www.analog.com/static/imported-files/data_sheets/AD5330_5331_5340_5341.pdf; ComponentLink3Description: Package Specification; ComponentLink3URL: http://www.analog.com/static/imported-files/packages/364515793657813558433715854054607941441RU20.pdf; ComponentLink4Description: Product URL; ComponentLink4URL: http://www.analog.com/en/digital-to-analog-converters/da-converters/ad5341/products/product.html
footprint RU-20_N (TSOP, 20-Leads, Body 6.5x4.4mm, Pitch 0.65mm, IPC Medium Density)
footprint RU-20_L (TSOP, 20-Leads, Body 6.5x4.4mm, Pitch 0.65mm, IPC High Density)
footprint RU-20_M (TSOP, 20-Leads, Body 6.5x4.4mm, Pitch 0.65mm, IPC Low Density)
pins: 1 HBEN (in) "High Byte Enable Pin. This pin is used when writing to the device to determine if data is written to the high byte register or the low byte register.", 2 BUF (in) "Buffer Control Pin. This pin controls whether the reference input to the DAC is buffered or unbuffered.", 3 VREF (in) "Reference Input.", 4 VOUT (hiz) "Output of DAC. Buffered output with rail-to-rail operation.", 5 GND (power) "Ground reference point for all circuitry on the part.", 6 ~{CS} (in) "Active low Chip Select Input. This is used in conjunction with W\R\ to write data to the parallel interface.", 7 ~{WR} (in) "Active Low Write Input. This is used in conjunction with C\S\ to write data to the parallel interface.", 8 GAIN (in) "Gain Control Pin. This controls whether the output range from the DAC is 0 V to VREF or 0 V to 2 x VREF.", 9 ~{CLR} (in) "Asynchronous active low control input that clears all input registers and DAC registers to zero.", 10 ~{LDAC} (in) "Active low control input that updates the DAC registers with the contents of the input registers.", 11 ~{PD} (in) "Power-Down Pin. This active low control pin puts the DAC into power-down mode.", 12 VDD (power) "Power Supply Input. These parts can operate from 2.5 V to 5.5 V and the supply should be decoupled with a 10 uF capacitor in parallel with a 0.1 uF capacitor to GND.", 13 DB0 (in) "Parallel Data Input.", 14 DB1 (in) "Parallel Data Input.", 15 DB2 (in) "Parallel Data Input.", 16 DB3 (in) "Parallel Data Input.", 17 DB4 (in) "Parallel Data Input.", 18 DB5 (in) "Parallel Data Input.", 19 DB6 (in) "Parallel Data Input.", 20 DB7 (in) "Parallel Data Input. DB7 is the MSB of these eight bits."

## AD5341BRUZ-REEL7
designator U?
Single 12-Bit Digital-to-Analog Converter, 2.5 to 5.5 V, -40 to +105 degC, RU-20, Pb-Free, Reel; Generic Part Number: AD5341; Manufacturer: Analog Devices; PartNumber: AD5341BRUZ-REEL7; # DAC Outputs: 1; Max V+: 5.5V; Op Pwr Diss: 1.25mW; Resolution (Bits): 12; Settling Time: 8µs; Single Supply: Yes; DatasheetVersion: Rev.A; PackageVersion: 2000; PackageReference: RU-20; PackageDescription: 20-Lead Thin Shrink Small Outline Package [TSSOP]; Supplier 1: Digi-Key; Supplier Part Number 1: AD5341BRUZ-REEL7-ND; Supplier 2: Mouser; Supplier Part Number 2: 584-AD5341BRUZ-R7; Packing: Reel; RoHS: Y; Mounting Technology: Surface Mount; Code_JEDEC: MO-153AC; ComponentLink1Description: Manufacturer URL; ComponentLink1URL: http://www.analog.com/en/index.html; ComponentLink2Description: Datasheet; ComponentLink2URL: http://www.analog.com/static/imported-files/data_sheets/AD5330_5331_5340_5341.pdf; ComponentLink3Description: Package Specification; ComponentLink3URL: http://www.analog.com/static/imported-files/packages/364515793657813558433715854054607941441RU20.pdf; ComponentLink4Description: Product URL; ComponentLink4URL: http://www.analog.com/en/digital-to-analog-converters/da-converters/ad5341/products/product.html
footprint RU-20_N (TSOP, 20-Leads, Body 6.5x4.4mm, Pitch 0.65mm, IPC Medium Density)
footprint RU-20_L (TSOP, 20-Leads, Body 6.5x4.4mm, Pitch 0.65mm, IPC High Density)
footprint RU-20_M (TSOP, 20-Leads, Body 6.5x4.4mm, Pitch 0.65mm, IPC Low Density)
pins: 1 HBEN (in) "High Byte Enable Pin. This pin is used when writing to the device to determine if data is written to the high byte register or the low byte register.", 2 BUF (in) "Buffer Control Pin. This pin controls whether the reference input to the DAC is buffered or unbuffered.", 3 VREF (in) "Reference Input.", 4 VOUT (hiz) "Output of DAC. Buffered output with rail-to-rail operation.", 5 GND (power) "Ground reference point for all circuitry on the part.", 6 ~{CS} (in) "Active low Chip Select Input. This is used in conjunction with W\R\ to write data to the parallel interface.", 7 ~{WR} (in) "Active Low Write Input. This is used in conjunction with C\S\ to write data to the parallel interface.", 8 GAIN (in) "Gain Control Pin. This controls whether the output range from the DAC is 0 V to VREF or 0 V to 2 x VREF.", 9 ~{CLR} (in) "Asynchronous active low control input that clears all input registers and DAC registers to zero.", 10 ~{LDAC} (in) "Active low control input that updates the DAC registers with the contents of the input registers.", 11 ~{PD} (in) "Power-Down Pin. This active low control pin puts the DAC into power-down mode.", 12 VDD (power) "Power Supply Input. These parts can operate from 2.5 V to 5.5 V and the supply should be decoupled with a 10 uF capacitor in parallel with a 0.1 uF capacitor to GND.", 13 DB0 (in) "Parallel Data Input.", 14 DB1 (in) "Parallel Data Input.", 15 DB2 (in) "Parallel Data Input.", 16 DB3 (in) "Parallel Data Input.", 17 DB4 (in) "Parallel Data Input.", 18 DB5 (in) "Parallel Data Input.", 19 DB6 (in) "Parallel Data Input.", 20 DB7 (in) "Parallel Data Input. DB7 is the MSB of these eight bits."

## AD5342BRUZ
designator U?
Dual 12-Bit Digital-to-Analog Converter, 2.5 to 5.5 V, 230 uA, -40 to +105 degC, RU-28, Pb-Free, Tube; Generic Part Number: AD5342; Manufacturer: Analog Devices; PartNumber: AD5342BRUZ; # DAC Outputs: 2; Max V+: 5.5V; Op Pwr Diss: 2.3mW; Resolution (Bits): 12; Settling Time: 8µs; Single Supply: Yes; DatasheetVersion: Rev.0; PackageVersion: 2005; PackageReference: RU-28; PackageDescription: 28-Lead Thin Shrink Small Outline Package [TSSOP]; Supplier 1: Digi-Key; Supplier Part Number 1: AD5342BRUZ-ND; Supplier 2: Newark; Supplier Part Number 2: 59K3992; Supplier 3: Mouser; Supplier Part Number 3: 584-AD5342BRUZ; Packing: Tube; RoHS: Y; Mounting Technology: Surface Mount; Code_JEDEC: MO-153-AE; ComponentLink1Description: Manufacturer URL; ComponentLink1URL: http://www.analog.com/en/index.html; ComponentLink2Description: Datasheet; ComponentLink2URL: http://www.analog.com/static/imported-files/data_sheets/AD5332_5333_5342_5343.pdf; ComponentLink3Description: Package Specification; ComponentLink3URL: http://www.analog.com/static/imported-files/packages/249854663RU_28.pdf; ComponentLink4Description: Product URL; ComponentLink4URL: http://www.analog.com/en/digital-to-analog-converters/da-converters/ad5342/products/product.html
footprint RU-28_N (TSOP, 28-Leads, Body 9.7x4.4mm, Pitch 0.65mm, IPC Medium Density)
footprint RU-28_L (TSOP, 28-Leads, Body 9.7x4.4mm, Pitch 0.65mm, IPC High Density)
footprint RU-28_M (TSOP, 28-Leads, Body 9.7x4.4mm, Pitch 0.65mm, IPC Low Density)
pins: 1 GAIN (in) "Gain Control Pin. This controls whether the output range from the DAC is 0-VREF or 0-2 VREF.", 2 BUF (in) "Buffer Control Pin. This pin controls whether the reference input to the DAC is buffered or unbuffered.", 3 VREFB (in) "Reference Input for DAC B.", 4 VREFA (in) "Reference Input for DAC A.", 5 VOUTA (hiz) "Output of DAC A. Buffered output with rail-to-rail operation.", 6 VOUTB (hiz) "Output of DAC B. Buffered output with rail-to-rail operation.", 7 NC "No Connect.", 8 NC "No Connect.", 9 GND (power) "Ground reference point for all circuitry on the part.", 10 ~{CS} (in) "Active Low Chip Select Input. This is used in conjunction with W\R\ to write data to the parallel interface.", 11 ~{WR} (in) "Active low Write Input. This is used in conjunction with C\S\ to write data to the parallel interface.", 12 A0 (in) "Address pin for selecting between DAC A and DAC B.", 13 ~{CLR} (in) "Asynchronous active low control input that clears all input registers and DAC registers to zeros.", 14 ~{LDAC} (in) "Active low control input that updates the DAC registers with the contents of the input registers. This allows all DAC outputs to be simultaneously updated.", 15 ~{PD} (in) "Power-Down Pin. This active low control pin puts all DACs into power-down mode.", 16 VDD (power) "Power Supply Pin. These parts can operate from 2.5 V to 5.5 V and the supply should be decoupled with a 10 uF capacitor in parallel with a 0.1 uF capacitor to GND.", 17 DB0 (in) "Parallel Data Input", 18 DB1 (in) "Parallel Data Input", 19 DB2 (in) "Parallel Data Input", 20 DB3 (in) "Parallel Data Input", 21 DB4 (in) "Parallel Data Input", 22 DB5 (in) "Parallel Data Input", 23 DB6 (in) "Parallel Data Input", 24 DB7 (in) "Parallel Data Input", 25 DB8 (in) "Parallel Data Input", 26 DB9 (in) "Parallel Data Input", 27 DB10 (in) "Parallel Data Input", 28 DB11 (in) "Parallel Data Input. DB11 is the MSB of these 12 bits."

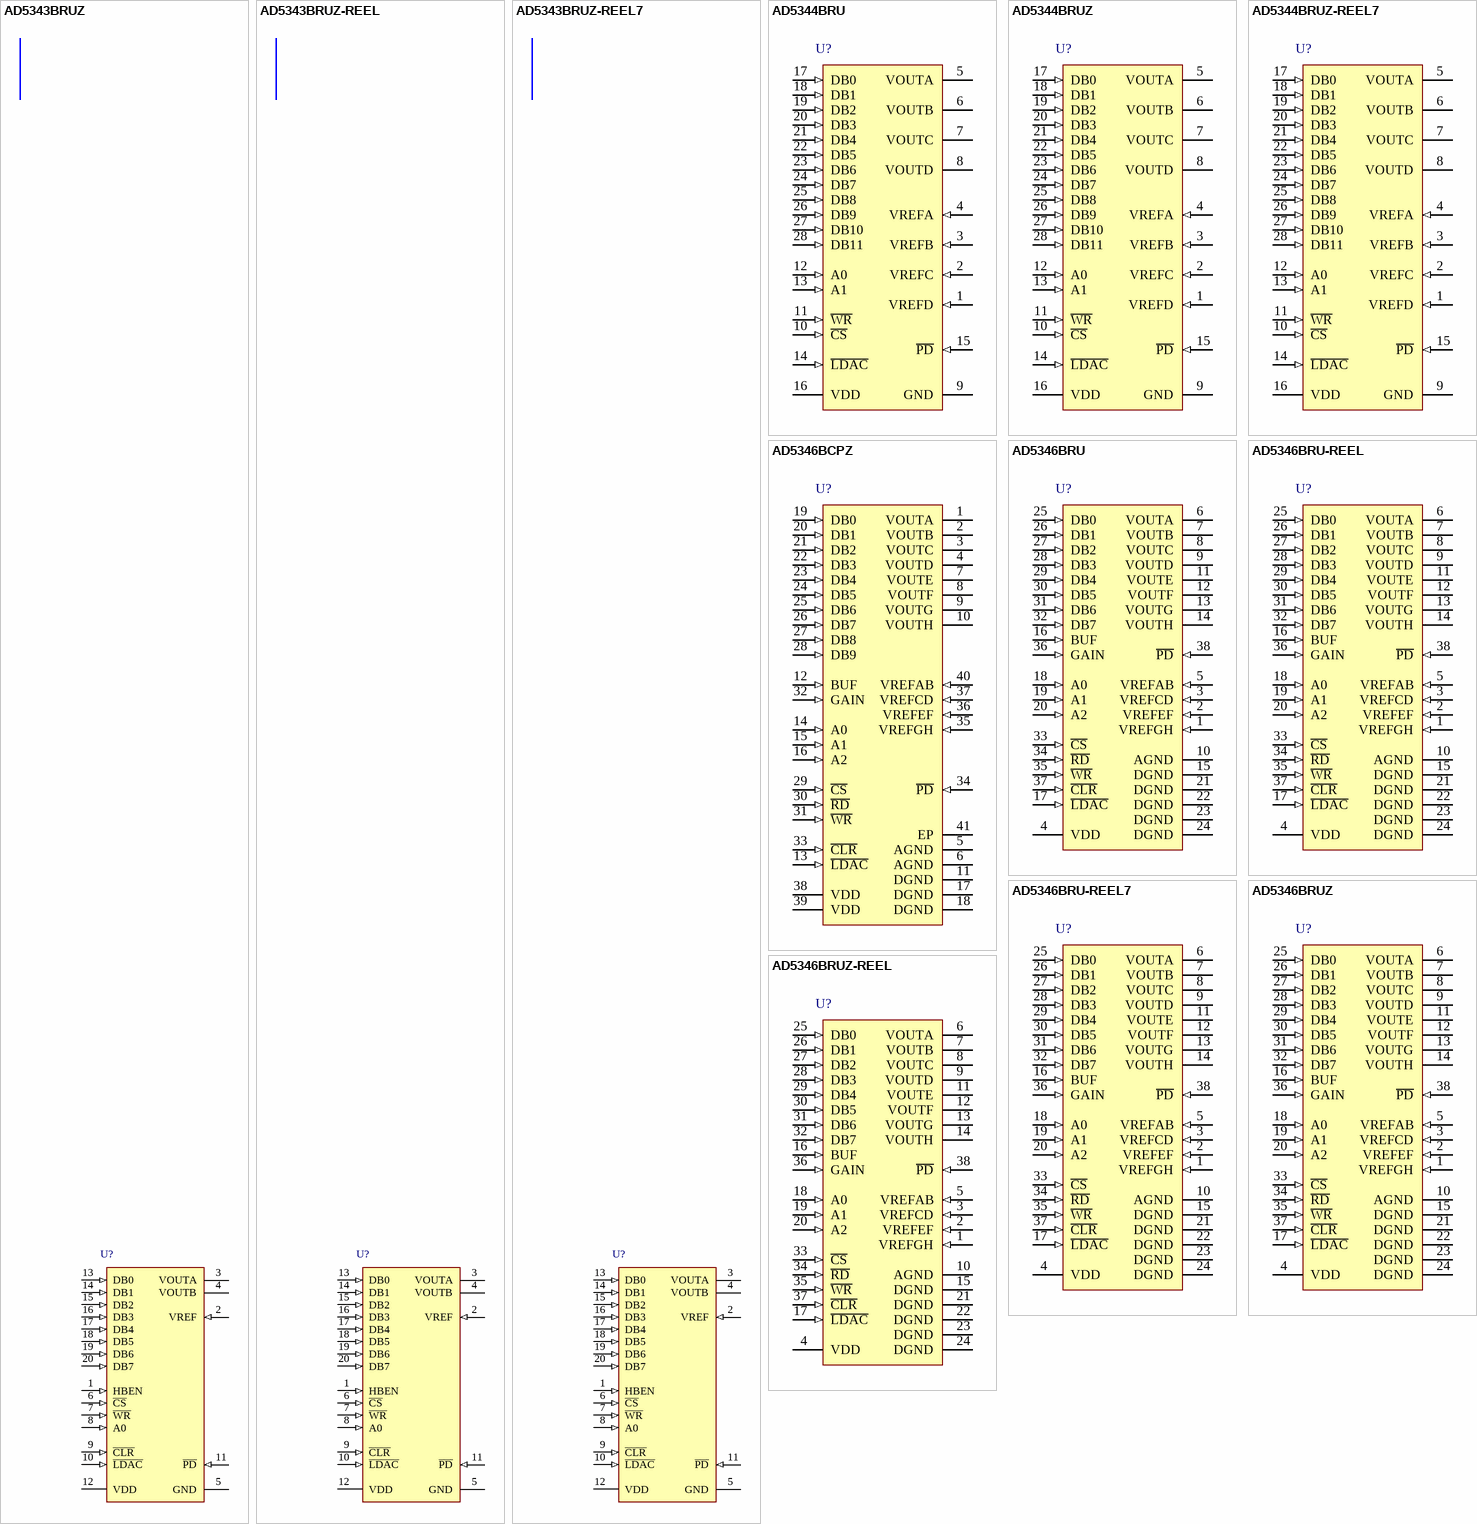
[diagram p17: symbols AD5343BRUZ to AD5346BRUZ-REEL]